# Altium footprint library 接插件.PcbLib: 194 footprints (part 13 of 13)
Each footprint in its own frame and in the unit in brackets; x right, y up, seen from the top. Pads: shape width x height; smd on the part's side, far side on the other; paste and mask are expansions set on the pad; w line width, h text height; cw(c..) or ccw(c..) is an arc to the next point about the centre after c.
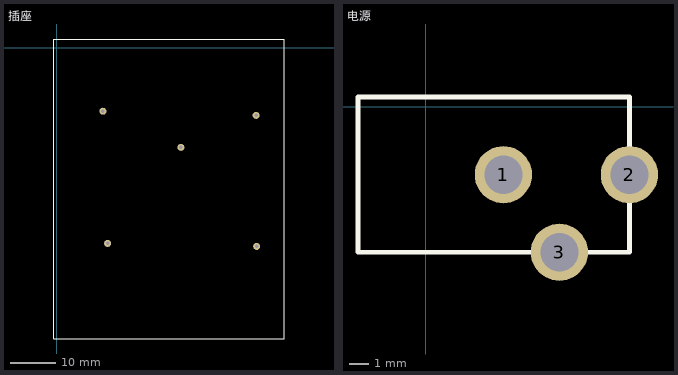
[diagram p12: the footprints below, top view; thin cyan lines are the x and y axes]

## 插座 [mil]
pads (5):
  round 60 hole 30: 1(1715,-1705) 2(395,-545) 3(1710,-580) 4(1065,-855) 5(435,-1680)
Top Overlay:
  lines w10: -25,-2500 1950,-2500 1950,75 -25,75 -25,-2500

## 电源 [mm]
pads (3):
  round 3 hole 2: 1(4.064,-3.556) 2(10.668,-3.556) 3(7,-7.62)
Top Overlay:
  lines w0.254: -3.556,-7.62 10.668,-7.62 10.668,0.508 -3.556,0.508 -3.556,-7.62